# EAGLE library part POLOLU_LSM6DS33 (library lsm6ds33)
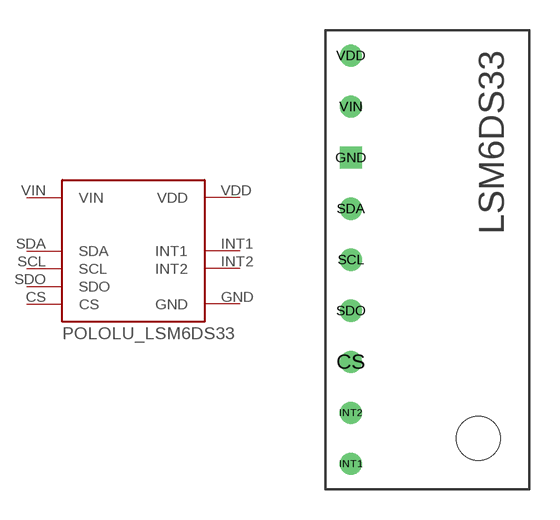
[diagram p0: symbol with the pads of POLOLU_LSM6DS33; footprint POLOLU_LSM6DS33]

Designator prefix -

## POLOLU_LSM6DS33  [POLOLU_LSM6DS33]
CS  CS
GND  GND
INT1  INT1
INT2  INT2
SCL  SCL
SDA  SDA
SDO  SDO
VDD  VDD
VIN  VIN

## Footprint POLOLU_LSM6DS33 (pad centres in mm)
drill 0.6: CS 1.27,-16.51; INT1 1.27,-21.59; INT2 1.27,-19.05; SCL 1.27,-11.43; SDA 1.27,-8.89; SDO 1.27,-13.97; VDD 1.27,-1.27; VIN 1.27,-3.81
drill 0.6 square: GND 1.27,-6.35
hole 2.184 at 7.62,-20.32